# Altium schematic symbol library PCB_Project_Dangrangto.SCHLIB: 47 symbols
Pins are listed as number, name and electrical type; pins without a type are passive.

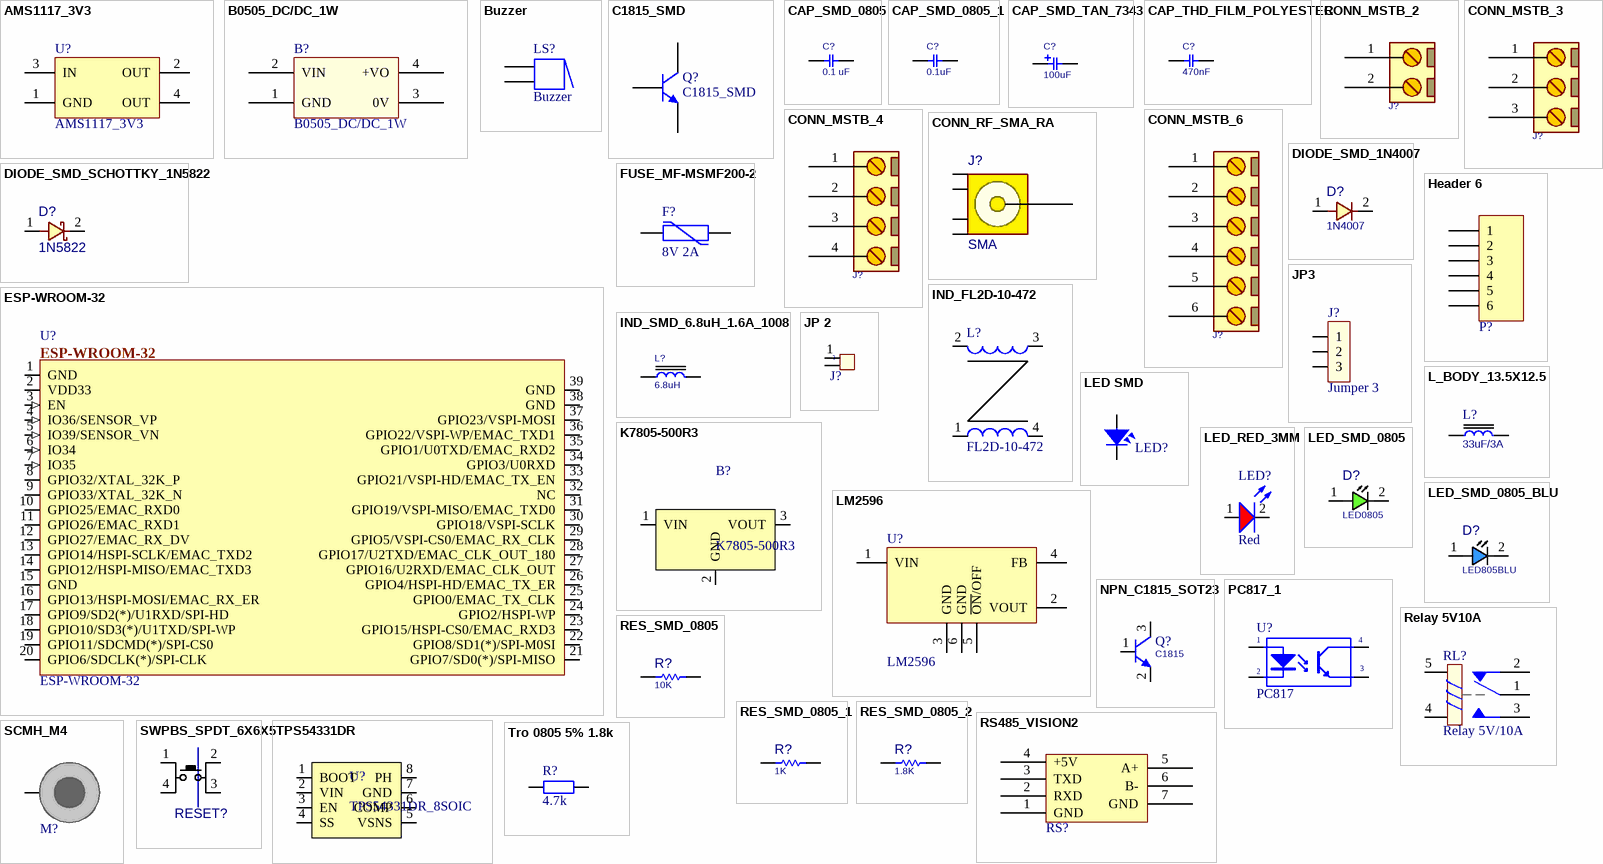
[diagram p0: symbols AMS1117_3V3 to Tro 0805 5% 1.8k]

## AMS1117_3V3
designator U?
1A Regulator
footprint SOT223-4M (SOT223, 4-Leads, Body 6.5x3.5mm, Pitch 2.3mm, Lead Span 7mm, IPC Low Density)
pins: 1 GND (power), 2 OUT, 3 IN (power), 4 OUT

## B0505_DC/DC_1W
designator B?
footprint B0505S_DC/DC_1W
footprint B0505S_DC/DC_1W
pins: 1 GND, 2 VIN, 3 0V, 4 +VO

## Buzzer
designator LS?
Magnetic Transducer Buzzer; Published: 24-Mar-1999; LatestRevisionDate: 17-Dec-2003; LatestRevisionNote: Schematic revised, PCB Footprint replaced.; DatasheetDocument: 17-Dec-2003; PackageReference: ABSM-1574; Publisher: Altium Limited; ComponentLink1Description: Manufacturer Link; ComponentLink1URL: http://www.megastar.com/linecard/buzzmode/index.php
footprint Buzzer (Buzzer; Solder Pad 35mil)
pins: 1, 2
1 alternate drawing of the same symbol

## C1815_SMD
designator Q?
NPN General Purpose Amplifier; Published: 8-Jun-2000; LatestRevisionDate: 15-Jan-2003; LatestRevisionNote: PCB Footprint 'BCY-W3/D4.7' replaced; DatasheetVersion: 1997; PackageVersion: Sep-1998; PackageReference: TO-92A; Publisher: Altium Limited; Code_JEDEC: TO-92A; ComponentLink1Description: Manufacturer Link; ComponentLink1URL: http://www.fairchildsemi.com/; ComponentLink2Description: Datasheet; ComponentLink2URL: http://www.fairchildsemi.com/ds/2N%2F2N3904.pdf
footprint trans_smd (SOT 23 _ 1-3-2)
pins: 1 B, 2 E, 3 C

## CAP_SMD_0805
designator C?, comment 0.1 uF
CAP, MLCC, -F, -V, MATERIAL, -%, 0201; PARAM: -, -%; MANF_P#: MANF_PART#; PRICE: 100= 1$; MANF: -; PARAM2: -V; ASSEMBLY: ASSEMBLY; VALUE: 0.1 uF
footprint cap_0805 (CHIP Capacitor, 2.0X1.3mm, 0805)
pins: 1, 2

## CAP_SMD_0805_1
designator C?, comment 0.1uF
CAP, MLCC, -F, -V, MATERIAL, -%, 0201; PARAM: -, -%; MANF_P#: MANF_PART#; PRICE: 100= 1$; MANF: -; PARAM2: -V; ASSEMBLY: ASSEMBLY; VALUE: 0.1uF
footprint cap_0805 (CHIP Capacitor, 2.0X1.3mm, 0805)
pins: 1, 2

## CAP_SMD_TAN_7343
designator C?, comment 100uF
CAP, SMD, TAN,; PARAM2: -V; VALUE: 100uF
footprint C_TN_7343 (CAPACITOR, TAN D, TAN E, TAN Y, TAN X, 7343P, 7.3X4.3mm)
pins: 1, 2

## CAP_THD_FILM_POLYESTER
designator C?, comment 470nF
CAP, FILM,; MANF_P#: MANF_PART#; PARAM2: 400V; PRICE: 100= 1$; DESC: CAP, FILM,; MANF: MANF; ASSEMBLY: ASSEMBLY; VALUE: 470nF
footprint C_PLY_7X2 (CAP, POLYESTER, 7.5X2.5mm pitch: 5.0mm)
footprint C_PLY_19X8 (CAP, POLYESTER, 19.0X8.0mm pitch: 15.0mm, 0.22uF 400V)
footprint C_PLY_22X7 (CAP, POLYESTER, 33.0X7.0mm pitch: 20.0mm, 0.68uF 400V)
footprint C_PLY_6X3 (Footprint not found)
footprint C_PLY_26X9 (Footprint not found)
footprint C_PLY_26X8 (Footprint not found)
footprint C_PLY_10X6X9 (Footprint not found)
footprint C_PLY_10X6X12 (Footprint not found)
footprint C_PLY_7X5 (Capacitor, THT, Metallized Polyester Film)
footprint C_PLY_7X6 (Capacitor, THT, Metallized Polyester Film)
footprint C_PLY_7X6_5 (Capacitor, THT, Metallized Polyester Film)
footprint C_PLY_10X5 (Capacitor, THT, Metallized Polyester Film)
footprint C_PLY_10X8 (Capacitor, THT, Metallized Polyester Film, 5 & 7.5mm pitch hybrid)
footprint C_PLY_12X4 (Capacitor, MF, Thru-Hole, Dipped Radial; Body 12.5 x 4.5 x 9.0 mm (WxTxH) Pin Spacing 10.0 mm (typ))
pins: 1, 2

## CONN_MSTB_2
designator J?, comment CONN_TB2  (value not drawn)
CONN, PHOENIX MSTB, 5-G, 5.08mm pitch; VALUE: CONN_TB2
footprint MSTB_2 (PHOENIX MSTB 2, 5-G, 5.08mm pitch, 2pin)
pins: 1, 2

## CONN_MSTB_3
designator J?, comment CONN_TB3  (value not drawn)
CONN, PHOENIX MSTB, 5-G, 5.08mm pitch; VALUE: CONN_TB3
footprint MSTB_3 (PHOENIX MSTB 2, 5-G, 5.08mm pitch, 3pin)
pins: 1, 2, 3

## CONN_MSTB_4
designator J?, comment CONN_TB4  (value not drawn)
CONN, PHOENIX MSTB, 5-G, 5.08mm pitch; VALUE: CONN_TB4
footprint MSTB_4 (PHOENIX MSTB 2, 5-G, 5.08mm pitch)
pins: 1, 2, 3, 4

## CONN_MSTB_6
designator J?, comment CONN_TB6  (value not drawn)
CONN, PHOENIX MSTB, 5-G, 5.08mm pitch; VALUE: CONN_TB6
footprint MSTB_6 (PHOENIX MSTB 2, 5-G, 5.08mm pitch)
pins: 1, 2, 3, 4, 5, 6

## CONN_RF_SMA_RA
designator J?, comment SMA
CONN, RF, SMA, Right Angle; MANF_P#: SMA-J-P-H-RA-TH1; MANF: Samtec; PARAM: 50Ohm, 20GHz; DESC: DESCRIPTION; DIST#: DIGIKEY; PARAM2: GOLD; ASSEMBLY: ASSEMBLY; PRICE: 6.3$; VALUE: SMA
footprint SMA_RA (CONN, RF, COAX, SMA, RIGHT ANGLE THD)
pins: 1 SIG, 2 G1, 3 G2, 4 G3, 5 G4

## DIODE_SMD_1N4007
designator D?, comment 1N4007
DIODE, GENERAL PURPOSE, 1000V/1A; MANF: Kingtronics; DESC: DESCRIPTION; PARAM: 1000V VRRM; PARAM2: 1A; MANF_P#: M7; ASSEMBLY: ASSEMBLY; PRICE: PRICE; VALUE: 1N4007
footprint D_SMA (SMA Molded Diode, 2-Leads, Body 4.3x2.7mm)
pins: 1, 2

## DIODE_SMD_SCHOTTKY_1N5822
designator D?, comment 1N5822
DIODE, SCHOTTKY, 40V, 3A; MANF: DIODES; DESC: DESCRIPTION; MANF_P#: 1N5822; ASSEMBLY: ASSEMBLY; PRICE: PRICE; PARAM2: 3A; PARAM: 40V; VALUE: 1N5822
footprint DIODE_SMD (SMA Molded Diode, 2-Leads, Body 4.3x2.7mm, SOD-128)
pins: 1, 2

## ESP-WROOM-32
designator U?
footprint ESP32 WROOM
pins: 1 GND, 2 VDD33, 3 EN (in), 4 IO36/SENSOR_VP (in), 5 IO39/SENSOR_VN (in), 6 IO34 (in), 7 IO35 (in), 8 GPIO32/XTAL_32K_P, 9 GPIO33/XTAL_32K_N, 10 GPIO25/EMAC_RXD0, 11 GPIO26/EMAC_RXD1, 12 GPIO27/EMAC_RX_DV, 13 GPIO14/HSPI-SCLK/EMAC_TXD2, 14 GPIO12/HSPI-MISO/EMAC_TXD3, 15 GND, 16 GPIO13/HSPI-MOSI/EMAC_RX_ER, 17 GPIO9/SD2(*)/U1RXD/SPI-HD, 18 GPIO10/SD3(*)/U1TXD/SPI-WP, 19 GPIO11/SDCMD(*)/SPI-CS0, 20 GPIO6/SDCLK(*)/SPI-CLK, 21 GPIO7/SD0(*)/SPI-MISO, 22 GPIO8/SD1(*)/SPI-M0SI, 23 GPIO15/HSPI-CS0/EMAC_RXD3, 24 GPIO2/HSPI-WP, 25 GPIO0/EMAC_TX_CLK, 26 GPIO4/HSPI-HD/EMAC_TX_ER, 27 GPIO16/U2RXD/EMAC_CLK_OUT, 28 GPIO17/U2TXD/EMAC_CLK_OUT_180, 29 GPIO5/VSPI-CS0/EMAC_RX_CLK, 30 GPIO18/VSPI-SCLK, 31 GPIO19/VSPI-MISO/EMAC_TXD0, 32 NC, 33 GPIO21/VSPI-HD/EMAC_TX_EN, 34 GPIO3/U0RXD, 35 GPIO1/U0TXD/EMAC_RXD2, 36 GPIO22/VSPI-WP/EMAC_TXD1, 37 GPIO23/VSPI-MOSI, 38 GND, 39 GND

## FUSE_MF-MSMF200-2
designator F?, comment 8V 2A
PTC RESET FUSE 8V 2A 1812; Manufacturer: Bourns; Manufacturer Part Number: MF-MSMF200-2; Number of Terminals/Pins: 2; Max Current Rating: 40A; Power Dissipation: 800mW; Trip Current: 4A; Resistance: 80mR; Time to Trip: 3s; Aging: 1000 hr @ +85 °C (Passive); Approvals: UL,CSA,TUV; Supplier 1: Digi-Key; Supplier Part Number 1: MF-MSMF200-2CT-ND; RoHS: Yes; Category: Fuses; Stock 1: 15085; Pricing 1: 1=0.67000, 5=0.65000, 10=0.63000, 50=0.53000, 100=0.44000, 250=0.40000, 500=0.33998, 1000=0.29998 (USD); Mount: PCB,Surface Mount; Case/Package: 1812; Number of Pins: 2; Case Code (Metric): 4532; Case Code (Imperial): 1812; Terminal Material: Gold; Min Operating Temperature: -40°C; Max Operating Temperature: 85°C; Hold Current: 2A; Current Rating: 40A; Package Quantity: 2000; Packaging: Tape and Reel; Operating Supply Voltage: 8V; Voltage Rating: 8V; Termination: SMD/SMT; Max Power Dissipation: 800mW; Voltage Rating (DC): 8V; Series: MF-MSMF; Length: 4.73mm; Width: 3.41mm; Height: 0.85mm; Radiation Hardening: No; REACH SVHC: No SVHC; Lead Free: Lead Free; RoHS Compliant: Yes; ComponentLink1URL: https://datasheet.ciiva.com/326/mfmsmf-326966.pdf?src-supplier=Digi-Key; ComponentLink1Description: https://datasheet.ciiva.com/326/mfmsmf-326966.pdf?src-supplier=Digi-Key; ComponentLink2URL: https://datasheet.ciiva.com/326/mfmsmf-326967.pdf?src-supplier=Digi-Key; ComponentLink2Description: https://datasheet.ciiva.com/326/mfmsmf-326967.pdf?src-supplier=Digi-Key; ComponentLink3URL: https://datasheet.ciiva.com/1274/1786007-1274556.pdf?src-supplier=Element14; ComponentLink3Description: https://datasheet.ciiva.com/1274/1786007-1274556.pdf?src-supplier=Element14; ComponentLink4URL: https://datasheet.ciiva.com/1228/1786007-1228163.pdf?src-supplier=Newark; ComponentLink4Description: https://datasheet.ciiva.com/1228/1786007-1228163.pdf?src-supplier=Newark; ComponentLink5URL: https://datasheet.ciiva.com/3020/mfmsmf-3020419.pdf?src-supplier=Avnet; ComponentLink5Description: https://datasheet.ciiva.com/3020/mfmsmf-3020419.pdf?src-supplier=Avnet; ComponentLink6URL: https://datasheet.ciiva.com/326/mfmsmf-326968.pdf?src-supplier=Digi-Key; ComponentLink6Description: https://datasheet.ciiva.com/326/mfmsmf-326968.pdf?src-supplier=Digi-Key; ComponentLink7URL: https://datasheet.ciiva.com/16692/mfmsmf-16692201.pdf?src-supplier=Avnet+Europe; ComponentLink7Description: https://datasheet.ciiva.com/16692/mfmsmf-16692201.pdf?src-supplier=Avnet+Europe; ComponentLink8URL: https://datasheet.ciiva.com/3019/mfmsmf-3019786.pdf?src-supplier=Avnet; ComponentLink8Description: https://datasheet.ciiva.com/3019/mfmsmf-3019786.pdf?src-supplier=Avnet; ComponentLink9URL: https://datasheet.ciiva.com/28411/1786007-28411578.pdf?src-supplier=Element14; ComponentLink9Description: https://datasheet.ciiva.com/28411/1786007-28411578.pdf?src-supplier=Element14; ComponentLink10URL: https://datasheet.ciiva.com/15187/getdatasheetpartid-117210-15187148.pdf?src-supplier=Verical; ComponentLink10Description: https://datasheet.ciiva.com/15187/getdatasheetpartid-117210-15187148.pdf?src-supplier=Verical; ComponentLink11URL: https://datasheet.ciiva.com/1274/1786007-1274557.pdf?src-supplier=Element14; ComponentLink11Description: https://datasheet.ciiva.com/1274/1786007-1274557.pdf?src-supplier=Element14; ComponentLink12URL: https://datasheet.ciiva.com/30196/575mfmsmf-30196429.pdf?src-supplier=Onlinecomponents.com; ComponentLink12Description: https://datasheet.ciiva.com/30196/575mfmsmf-30196429.pdf?src-supplier=Onlinecomponents.com
footprint FUSE_PTC_SMD1812_03
footprint FUSE_RESETTABLE_SMD_1812 (Fuse)
pins: 1, 2

## Header 6
designator P?  (value not drawn)
Header, 6-Pin; LatestRevisionDate: 17-Jul-2002; LatestRevisionNote: Re-released for DXP Platform.; Publisher: Altium Limited
footprint JP6
pins: 1, 2, 3, 4, 5, 6

## IND_FL2D-10-472
designator L?, comment FL2D-10-472
4.7uH, 1A
footprint INDC_FL2D-10-472
pins: 1, 2, 3, 4

## IND_SMD_6.8uH_1.6A_1008
designator L?, comment 6.8uH
INDUCTOR, 6.8uH, 1.6A, 440mOhm, 1008; PARAM: 1.6A (Isat); MANF_P#: VLS252012HBU-6R8M; MANF: TDK; PARAM2: 440mOhm, -40~105oC; PRICE: 0.6$; ASSEMBLY: ASSEMBLY; VALUE: 6.8uH
footprint L1008 (INDUCTOR, 2520 1008, 2.5X2.0mm)
pins: 1, 2

## JP3
designator J?, comment Jumper 3
Value: J3
footprint JP3 (Jumper 3)
pins: 1, 2, 3

## JP 2
designator J?, comment Jumper 2  (value not drawn)
Value: JP 2
footprint JP2
pins: 1, 2

## K7805-500R3
designator B?
footprint B0505S_DC/DC_1W
footprint B0505S_DC/DC_1W
pins: 1 VIN, 2 GND, 3 VOUT

## L_BODY_13.5X12.5
designator L?, comment 33uF/3A
L_BODY_13.5X12.5; VALUE: 33uF/3A
footprint L_12 (INDUCTOR, 13.5x12.5mm, DR125, CDRH127, D128C 931AS)
footprint INDC_L127H_331 (Chip Inductor, Body 12x12mm, IPC High Density)
footprint L_BODY 12X12 (Chip Inductor, Body 12x12mm, IPC High Density)
pins: 1, 2

## LED SMD
designator LED?, comment LED  (value not drawn)
Value: LED 3 - 5 ly 2 Colour
footprint LED 3512
footprint LED-0805-Blue
footprint LED-0805-Green
footprint LED-0805-Orange
footprint LED-1206-Blue (Compoment SMD 120x60mil)
footprint LED-0805-Yellow
footprint LED-0805-Red
footprint LED-1206-Green
footprint LED-1206-Orange
footprint LED-1206-Red
footprint LED-1206-Yellow
footprint LED-BLUE 0805
footprint LED-GREEN-0805
footprint LED-ORANGE-0805
footprint LED-RED-0805
footprint LED-WHITE-0805
footprint LED-YELLOW-0805
footprint LED0805GRN (LED SMD 0805, GREEN)
pins: 1, 2

## LED_RED_3MM
designator LED?, comment value Red  (hidden comment: LED_R_3)
LED Red 3mm/5MM; ComponentLink1Description: Datasheet; ComponentLink1URL: D:\Dropbox\Datasheets\Opto and Illumination\LEDs\SMD LED.pdf; Unit Price: 0.0476
footprint LED5R
pins: 1 A, 2 K

## LED_SMD_0805
designator D?, comment LED0805
LED, SMD, 0805; DESC: DESCRIPTION; MANF_P#: MANF_PART#; PARAM2: 2.2V; MANF: MANF; ASSEMBLY: ASSEMBLY; PRICE: PRICE; VALUE: LED0805
footprint LED0805 (0805LED)
footprint LED0805SIDE (Footprint not found)
pins: 1 ANODE, 2 CATHODE

## LED_SMD_0805_BLU
designator D?, comment LED805BLU
LED, SMD, 0805, BLUE; DESC: DESCRIPTION; MANF_P#: MANF_PART#; PARAM2: 2.2V; MANF: MANF; ASSEMBLY: ASSEMBLY; PRICE: 36t@Javan; VALUE: LED805BLU
footprint LED0805BLU (LED SMD 0805, BLUE)
footprint LED0805BLU (LED SMD 0805, BLUE)
footprint LED0805RED (LED SMD 0805, RED)
pins: 1 ANODE, 2 CATHODE

## LM2596
designator U?
1A Regulator
footprint TO263-5 (LM2576-SMD)
pins: 1 VIN, 2 VOUT, 3 GND, 4 FB, 5 ~{ON}/OFF, 6 GND

## NPN_C1815_SOT23
designator Q?, comment C1815
BJT, NPN, 50v, 0.15A, SMD, SOT23; PARAM2: 250mW; PARAM: 50v, 0.15A; MANF_P#: C1815; MANF: -; VALUE: C1815
footprint SOT23_3 (SOT-23, Micro3, MO-178, TO-236AB, MO-193C, SuperSOT3, SC-59, DSO190_3_300X150)
simulation model NS3904
pins: 1 B, 2 E, 3 C

## PC817_1
designator U?, comment PC817
Single Opto; Value: PC817
footprint PC817 (Photocoupler 1-channel type)
footprint PhotoCoupler_SMD
pins: 1 A "Anode", 2 K "Cathode", 3 E "Emitter", 4 C "Collector"

## Relay 5V10A
designator RL?, comment Relay 5V/10A
Relay SPDT,10A - 12VDC 5 Pin; Value: Relay SPDT, 10A, 12V
footprint RL_10A_5V (Relay SRD-05VDC-SL-C, 5 pin, 10A,19.1X15.5)
pins: 1, 2, 3, 4, 5

## RES_SMD_0805
designator R?, comment 10K
RESISTOR, SMD; PARAM: -W; DESC: DESCRIPTION; DIST#: MOUSER; PARAM2: 1%; MANF_P#: -; MANF: -; ASSEMBLY: ASSEMBLY; PRICE: 100= 0.5$; VALUE: 10K
footprint R0805 (CHIP RESISTOR 1/8 WATT ,2.0X1.3mm, 0805, 2012)
pins: 1, 2

## RES_SMD_0805_1
designator R?, comment 1K
RESISTOR, SMD; PARAM: -W; DESC: DESCRIPTION; DIST#: MOUSER; PARAM2: 1%; MANF_P#: -; MANF: -; ASSEMBLY: ASSEMBLY; PRICE: 100= 0.5$; VALUE: 1K
footprint R0805 (CHIP RESISTOR 1/8 WATT ,2.0X1.3mm, 0805, 2012)
pins: 1, 2

## RES_SMD_0805_2
designator R?, comment 1.8K
RESISTOR, SMD, SENS, 0.01Ohm, 0.5W; MANF_P#: WSLP0805R0100FEA; MANF: VISHAY; PARAM: 0.5W, -55~155oC; DESC: DESCRIPTION; DIST#: MOUSER; PARAM2: 1%; ASSEMBLY: ASSEMBLY; PRICE: 0.5$; VALUE: 1.8K
footprint R0805 (CHIP RESISTOR 1/8 WATT ,2.0X1.3mm, 0805, 2012)
pins: 1, 2

## RS485_VISION2
designator RS?  (value not drawn)
footprint RS485 - Version2
pins: 1 GND, 2 RXD, 3 TXD, 4 +5V, 5 A+, 6 B-, 7 GND

## SCMH_M4
designator M?, comment DNP/MH  (value not drawn)  (no BOM)
SCREW mouting, M4, 4mm diameter and 8.0mm PanHead; ASSEMBLY: DNP; VALUE: DNP/MH
footprint SCMH_M4 (SCREW mouting, M4, 4mm diameter and 8.0mm PanHead)
pins: 1

## SWPBS_SPDT_6X6X5
designator RESET?, comment PUSHBUTTON  (value not drawn)
SWITCH, PUSH BUTTON, TACTILE, SMD, SPDT, 6X6X5mm; DESC: DESCRIPTION; MANF: -; VALUE: PUSHBUTTON; ASSEMBLY: ASSEMBLY; PARAM: PARAM; PRICE: PRICE; MANF_P#: -
footprint SWPBS_SPDT_6X6X5 (SWITCH, PUSHBUTTON, SMD, SPDT, 6X6mm 4PIN)
pins: 1 P1, 2 P3, 3 P4, 4 P2

## TPS54331DR
designator U?, comment TPS54331DR_8SOIC
IC REG BUCK ADJ 3A 8SOIC
footprint SOIC-8N (SOIC, 8-Leads, Body 4.9x3.9mm, Pitch 1.27mm, IPC High Density)
pins: 1 BOOT, 2 VIN, 3 EN, 4 SS, 5 VSNS, 6 COMP, 7 GND, 8 PH

## Tro 0805 5% 1.8k
designator R?, comment 4.7k
Dán; Don_Vi: Con; So_Chan: 2; Ten_Linh_Kien: Trở 0805 5% 1.8k; Ma_Hang: MH005233; Chung_Loai: Dán; Kieu_Chan: *
footprint tro smd 0805
footprint RES-SMD-0805
pins: 1, 2

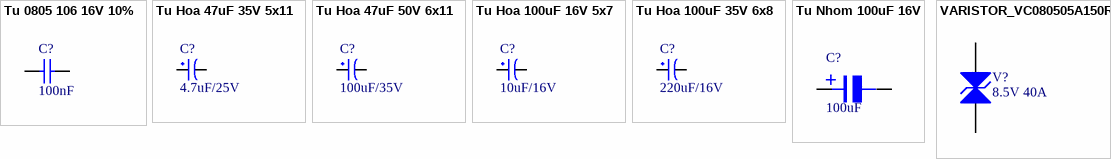
[diagram p1: symbols Tu 0805 106 16V 10% to VARISTOR_VC080505A150RP]

## Tu 0805 106 16V 10%
designator C?, comment 100nF
Dán; Ten_Linh_Kien: Tụ 0805 106-10uF 10% 16V; So_Chan: 2; Don_Vi: Con; Ma_Hang: MH004553; Chung_Loai: Dán; Kieu_Chan: *
footprint tu 0805 (Compoment SMD 80x50mil)
footprint cap_0805
pins: 1, 2

## Tu Hoa 47uF 35V 5x11
designator C?, comment 4.7uF/25V
Cắm; So_Chan: 2; Don_Vi: Con; Ten_Linh_Kien: Tụ Hóa 47uF 35V 5x11MM; Ma_Hang: MH001354; Chung_Loai: Cắm; Kieu_Chan: *
footprint tu hoa 5mm
pins: 1, 2

## Tu Hoa 47uF 50V 6x11
designator C?, comment 100uF/35V
Cắm; Don_Vi: Con; So_Chan: 2; Ten_Linh_Kien: Tụ Hóa 47uF 50V; Ma_Hang: MH001360; Chung_Loai: Cắm; Kieu_Chan: *
footprint tu hoa 6.5mm
pins: 1, 2

## Tu Hoa 100uF 16V 5x7
designator C?, comment 10uF/16V
Cắm; Don_Vi: Con; So_Chan: 2; Ten_Linh_Kien: Tụ Hóa 100uF 16V 5x7MM; Ma_Hang: MH001347; Chung_Loai: Cắm; Kieu_Chan: *
footprint tu hoa 5mm
pins: 1, 2

## Tu Hoa 100uF 35V 6x8
designator C?, comment 220uF/16V
Cắm; Don_Vi: Con; So_Chan: 2; Ten_Linh_Kien: Tụ Hóa 100uF 35V; Ma_Hang: MH006862; Chung_Loai: Cắm; Kieu_Chan: *
footprint tu hoa 6.5mm
pins: 1, 2

## Tu Nhom 100uF 16V
designator C?, comment 100uF
Dán; Don_Vi: Con; So_Chan: 2; Ten_Linh_Kien: Tụ Nhôm 100uF 16V 6.3x5.4MM; Ma_Hang: MH002219; Chung_Loai: Dán; Kieu_Chan: *
footprint tu nhom 6.3 (d)
pins: 1, 2
text: +

## VARISTOR_VC080505A150RP
designator V?, comment 8.5V 40A
VARISTOR 8.5V 40A 0805; Manufacturer: Kyocera AVX; Manufacturer Part Number: VC080505A150RP; Number of Terminals/Pins: 2; Capacitance: 1.1nF; Max Voltage Rating (AC): 4V; Max Voltage Rating (DC): 5.6V; Clamping Current: 1A; Clamping Voltage: 18V; Number of Circuits: 1; Energy: 0.1J; ESD Protection: Yes; Voltage Tolerance: 20%; Min Varistor Voltage: 6.8V; Max Varistor Voltage: 10.2V; Current Rating: 1mA; Supplier 1: Digi-Key; Supplier Part Number 1: 478-11137-2-ND; RoHS: Yes; Category: Varistors; Pricing 1: 4000=0.11550, 8000=0.10850, 12000=0.10150, 28000=0.09310 (USD); Mount: Surface Mount; Case/Package: 0805; Case Code (Imperial): 0805; Case Code (Metric): 2012; Material: Ceramic; Contact Plating: Tin,Matte; Min Operating Temperature: -55°C; Max Operating Temperature: 125°C; Varistor Voltage: 8.5V; Max Surge Current: 40A; Voltage Rating: 5.6V; Voltage Rating (AC): 4V; Voltage Rating (DC): 5.6V; Packaging: Tape and Reel; Max Output Current: 40A; Package Quantity: 4000; Termination: SMD/SMT; Operating Supply Voltage: 5.6V; Length: 2.01mm; Width: 1.25mm; Depth: 1.25mm; REACH SVHC: No SVHC; Lead Free: Lead Free; RoHS Compliant: Yes; ComponentLink1URL: https://datasheet.ciiva.com/34302/1155151-34302026.pdf?src-supplier=Jameco; ComponentLink1Description: https://datasheet.ciiva.com/34302/1155151-34302026.pdf?src-supplier=Jameco; ComponentLink2URL: https://datasheet.ciiva.com/3024/tguard-3024149.pdf?src-supplier=Avnet; ComponentLink2Description: https://datasheet.ciiva.com/3024/tguard-3024149.pdf?src-supplier=Avnet; ComponentLink3URL: https://datasheet.ciiva.com/7971/tguard-7971624.pdf?src-supplier=Element14; ComponentLink3Description: https://datasheet.ciiva.com/7971/tguard-7971624.pdf?src-supplier=Element14; ComponentLink4URL: https://datasheet.ciiva.com/369/tguard-369629.pdf?src-supplier=Digi-Key; ComponentLink4Description: https://datasheet.ciiva.com/369/tguard-369629.pdf?src-supplier=Digi-Key
footprint INDC0805
footprint INDC0805
pins: 1, 2